# EAGLE library part SI446* (library Silicon Labs)
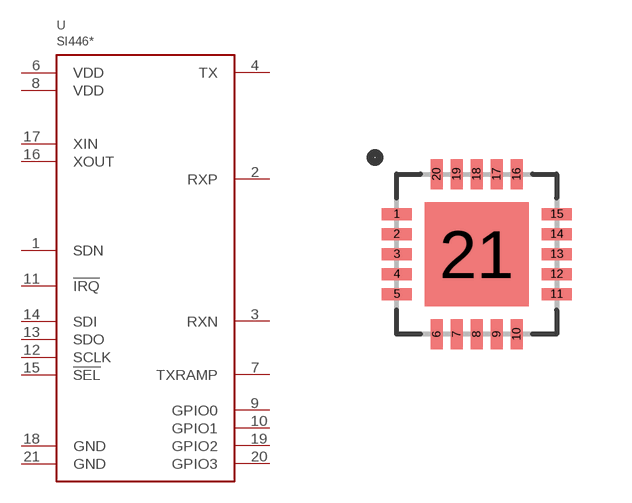
[diagram p5: symbol with the pads of QFN20; footprint QFN20]

Designator prefix U

## SI4463  [QFN20]
1  SDN
2  RXP
3  RXN
4  TX
6  VDD
7  TXRAMP
8  VDD
9  GPIO0
10  GPIO1
11  !IRQ
12  SCLK
13  SDO
14  SDI
15  !SEL
16  XOUT
17  XIN
18  GND
19  GPIO2
20  GPIO3
21  GND

## Footprint QFN20 (pad centres in mm)
smd 0.75 x 0.3: 1 -2,1; 2 -2,0.5; 3 -2,0; 4 -2,-0.5; 5 -2,-1; 11 2,-1; 12 2,-0.5; 13 2,0; 14 2,0.5; 15 2,1
smd 0.3 x 0.75: 6 -1,-2; 7 -0.5,-2; 8 0,-2; 9 0.5,-2; 10 1,-2; 16 1,2; 17 0.5,2; 18 0,2; 19 -0.5,2; 20 -1,2
smd 2.6 x 2.6: 21 0,0